# Altium footprint library TS1088AR02016.PcbLib: 1 footprints
Each footprint in its own frame and in the unit in brackets; x right, y up, seen from the top. Pads: shape width x height; smd on the part's side, far side on the other; paste and mask are expansions set on the pad; w line width, h text height; cw(c..) or ccw(c..) is an arc to the next point about the centre after c.
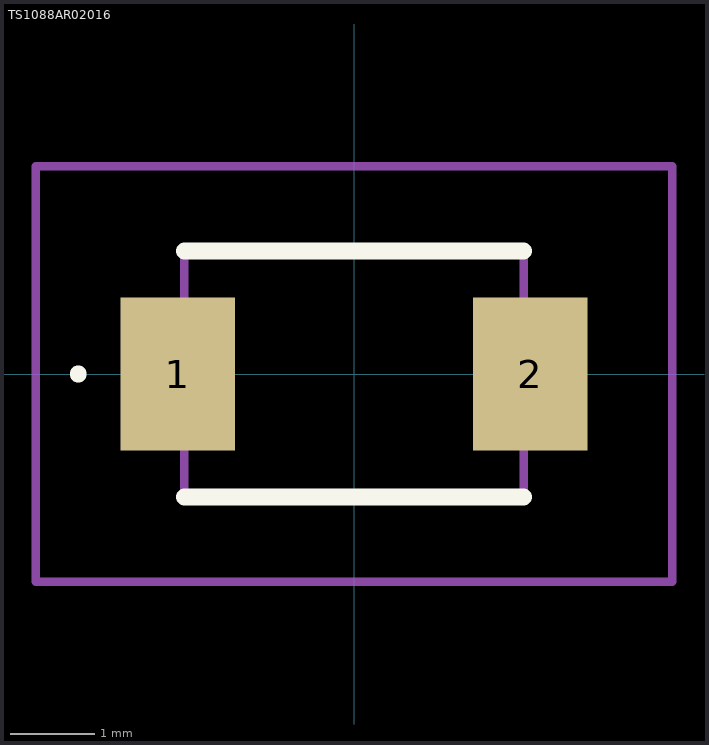
[diagram p0: the footprint, top view; thin cyan lines are the x and y axes]

## TS1088AR02016 [mm]
pads (2):
  rect 1.35x1.8 smd: 1(-2.075,0) 2(2.075,0)
Top Overlay:
  lines w0.1: -3.3,0 cw(c-3.25,0) -3.2,0 ; -3.3,0 -3.3,0 ; -3.3,0 ccw(c-3.25,0) -3.2,0 ; -3.2,0 -3.2,0
  lines w0.2: -2,-1.45 2,-1.45 ; -2,1.45 2,1.45
Mechanical 15:
  lines w0.1: -2,-1.45 2,-1.45 2,1.45 -2,1.45 -2,-1.45
Mechanical 20:
  lines w0.1: -3.75,-2.45 3.75,-2.45 3.75,2.45 -3.75,2.45 -3.75,-2.45